# EAGLE library part MCP2515T-I/ST (library Softgalaxy Pi HAT Lib-Eagle)
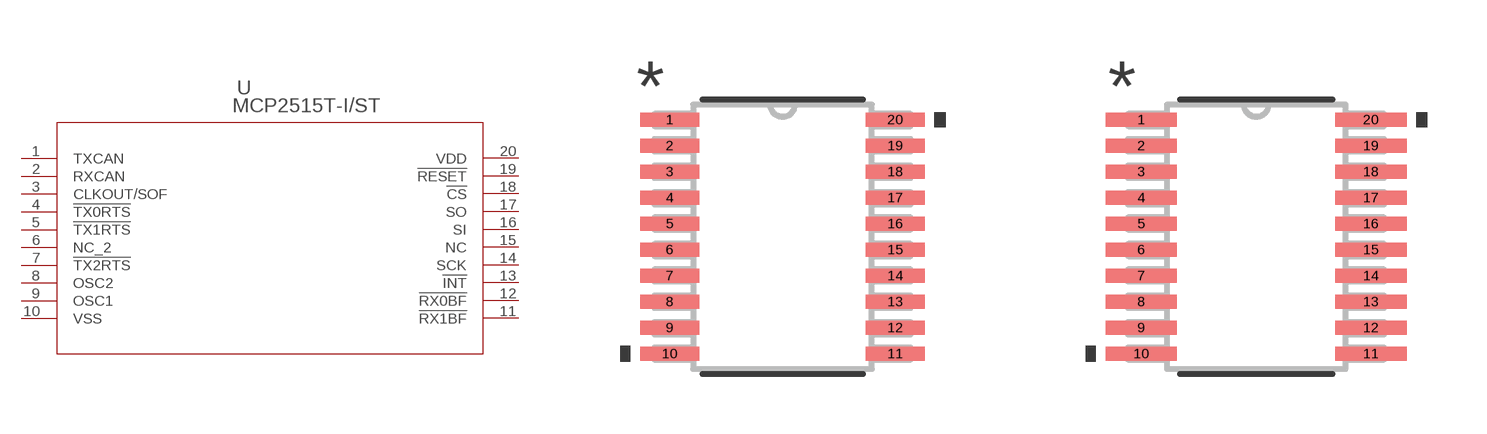
[diagram p3: symbol with the pads of TSSOP20_MC_MCH; footprints TSSOP20_MC_MCH, TSSOP20_MC_MCH-M]

Designator prefix U

## MCP2515T-I/ST (COPYRIGHT: Copyright (C) 2021 Ultra Librarian. All rights reserved.; MANUFACTURER_PART_NUMBER: MCP2515T-I/ST; MFR_NAME: Microchip)  [TSSOP20_MC_MCH]
1  TXCAN  pas
2  RXCAN  pas
3  CLKOUT/SOF  pas
4  !TX0RTS  pas
5  !TX1RTS  pas
6  NC_2  pas
7  !TX2RTS  pas
8  OSC2  pas
9  OSC1  pas
10  VSS  pas
11  !RX1BF  pas
12  !RX0BF  pas
13  !INT  pas
14  SCK  pas
15  NC  pas
16  SI  pas
17  SO  pas
18  !CS  pas
19  !RESET  pas
20  VDD  pas

## MCP2515T-I/STTSSOP20_MC_MCH-M (COPYRIGHT: Copyright (C) 2021 Ultra Librarian. All rights reserved.; MANUFACTURER_PART_NUMBER: MCP2515T-I/ST; MFR_NAME: Microchip)  [TSSOP20_MC_MCH-M]
Pads as for TSSOP20_MC_MCH

## MCP2515T-I/STTSSOP20_MC_MCH-L (COPYRIGHT: Copyright (C) 2021 Ultra Librarian. All rights reserved.; MANUFACTURER_PART_NUMBER: MCP2515T-I/ST; MFR_NAME: Microchip)  [TSSOP20_MC_MCH-L]
Pads as for TSSOP20_MC_MCH

## Footprint TSSOP20_MC_MCH (pad centres in mm)
smd 1.473 x 0.356: 1 -2.819,2.925; 2 -2.819,2.275; 3 -2.819,1.625; 4 -2.819,0.975; 5 -2.819,0.325; 6 -2.819,-0.325; 7 -2.819,-0.975; 8 -2.819,-1.625; 9 -2.819,-2.275; 10 -2.819,-2.925; 11 2.819,-2.925; 12 2.819,-2.275; 13 2.819,-1.625; 14 2.819,-0.975; 15 2.819,-0.325; 16 2.819,0.325; 17 2.819,0.975; 18 2.819,1.625; 19 2.819,2.275; 20 2.819,2.925

## Footprint TSSOP20_MC_MCH-M (pad centres in mm)
smd 1.778 x 0.356: 1 -2.87,2.925; 2 -2.87,2.275; 3 -2.87,1.625; 4 -2.87,0.975; 5 -2.87,0.325; 6 -2.87,-0.325; 7 -2.87,-0.975; 8 -2.87,-1.625; 9 -2.87,-2.275; 10 -2.87,-2.925; 11 2.87,-2.925; 12 2.87,-2.275; 13 2.87,-1.625; 14 2.87,-0.975; 15 2.87,-0.325; 16 2.87,0.325; 17 2.87,0.975; 18 2.87,1.625; 19 2.87,2.275; 20 2.87,2.925

## Footprint TSSOP20_MC_MCH-L (pad centres in mm)
smd 1.168 x 0.305: 1 -2.769,2.925; 2 -2.769,2.275; 3 -2.769,1.625; 4 -2.769,0.975; 5 -2.769,0.325; 6 -2.769,-0.325; 7 -2.769,-0.975; 8 -2.769,-1.625; 9 -2.769,-2.275; 10 -2.769,-2.925; 11 2.769,-2.925; 12 2.769,-2.275; 13 2.769,-1.625; 14 2.769,-0.975; 15 2.769,-0.325; 16 2.769,0.325; 17 2.769,0.975; 18 2.769,1.625; 19 2.769,2.275; 20 2.769,2.925